# EAGLE library part CONDOR_C1919 (library wicked-device)
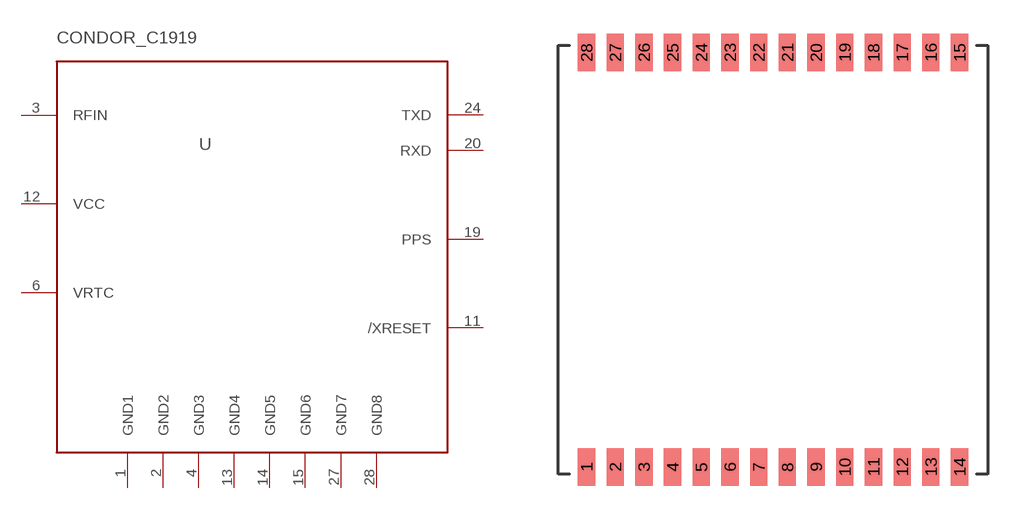
[diagram p11: symbol with the pads of C1919; footprint C1919]

Designator prefix -

## CONDOR_C1919C  [C1919]
1  GND1  pwr
2  GND2  pwr
3  RFIN  in
4  GND3  pwr
6  VRTC  pwr
11  /XRESET  in
12  VCC  pwr
13  GND4  pwr
14  GND5  pwr
15  GND6  pwr
19  PPS  out
20  RXD  in
24  TXD  out
27  GND7  pwr
28  GND8  pwr

## Footprint C1919 (pad centres in mm)
smd 0.762 x 1.653: 1 -8.255,-9.181; 2 -6.985,-9.181; 3 -5.715,-9.181; 4 -4.445,-9.181; 5 -3.175,-9.181; 6 -1.905,-9.181; 7 -0.635,-9.181; 8 0.635,-9.181; 9 1.905,-9.181; 10 3.175,-9.181; 11 4.445,-9.181; 12 5.715,-9.181; 13 6.985,-9.181; 14 8.255,-9.181; 15 8.255,9.181; 16 6.985,9.181; 17 5.715,9.181; 18 4.445,9.181; 19 3.175,9.181; 20 1.905,9.181; 21 0.635,9.181; 22 -0.635,9.181; 23 -1.905,9.181; 24 -3.175,9.181; 25 -4.445,9.181; 26 -5.715,9.181; 27 -6.985,9.181; 28 -8.255,9.181